# Altium footprint library SparkFun-Sensors.PCBLIB: 67 footprints (part 1 of 5)
Each footprint in its own frame and in the unit in brackets; x right, y up, seen from the top. Pads: shape width x height; smd on the part's side, far side on the other; paste and mask are expansions set on the pad; w line width, h text height; cw(c..) or ccw(c..) is an arc to the next point about the centre after c.
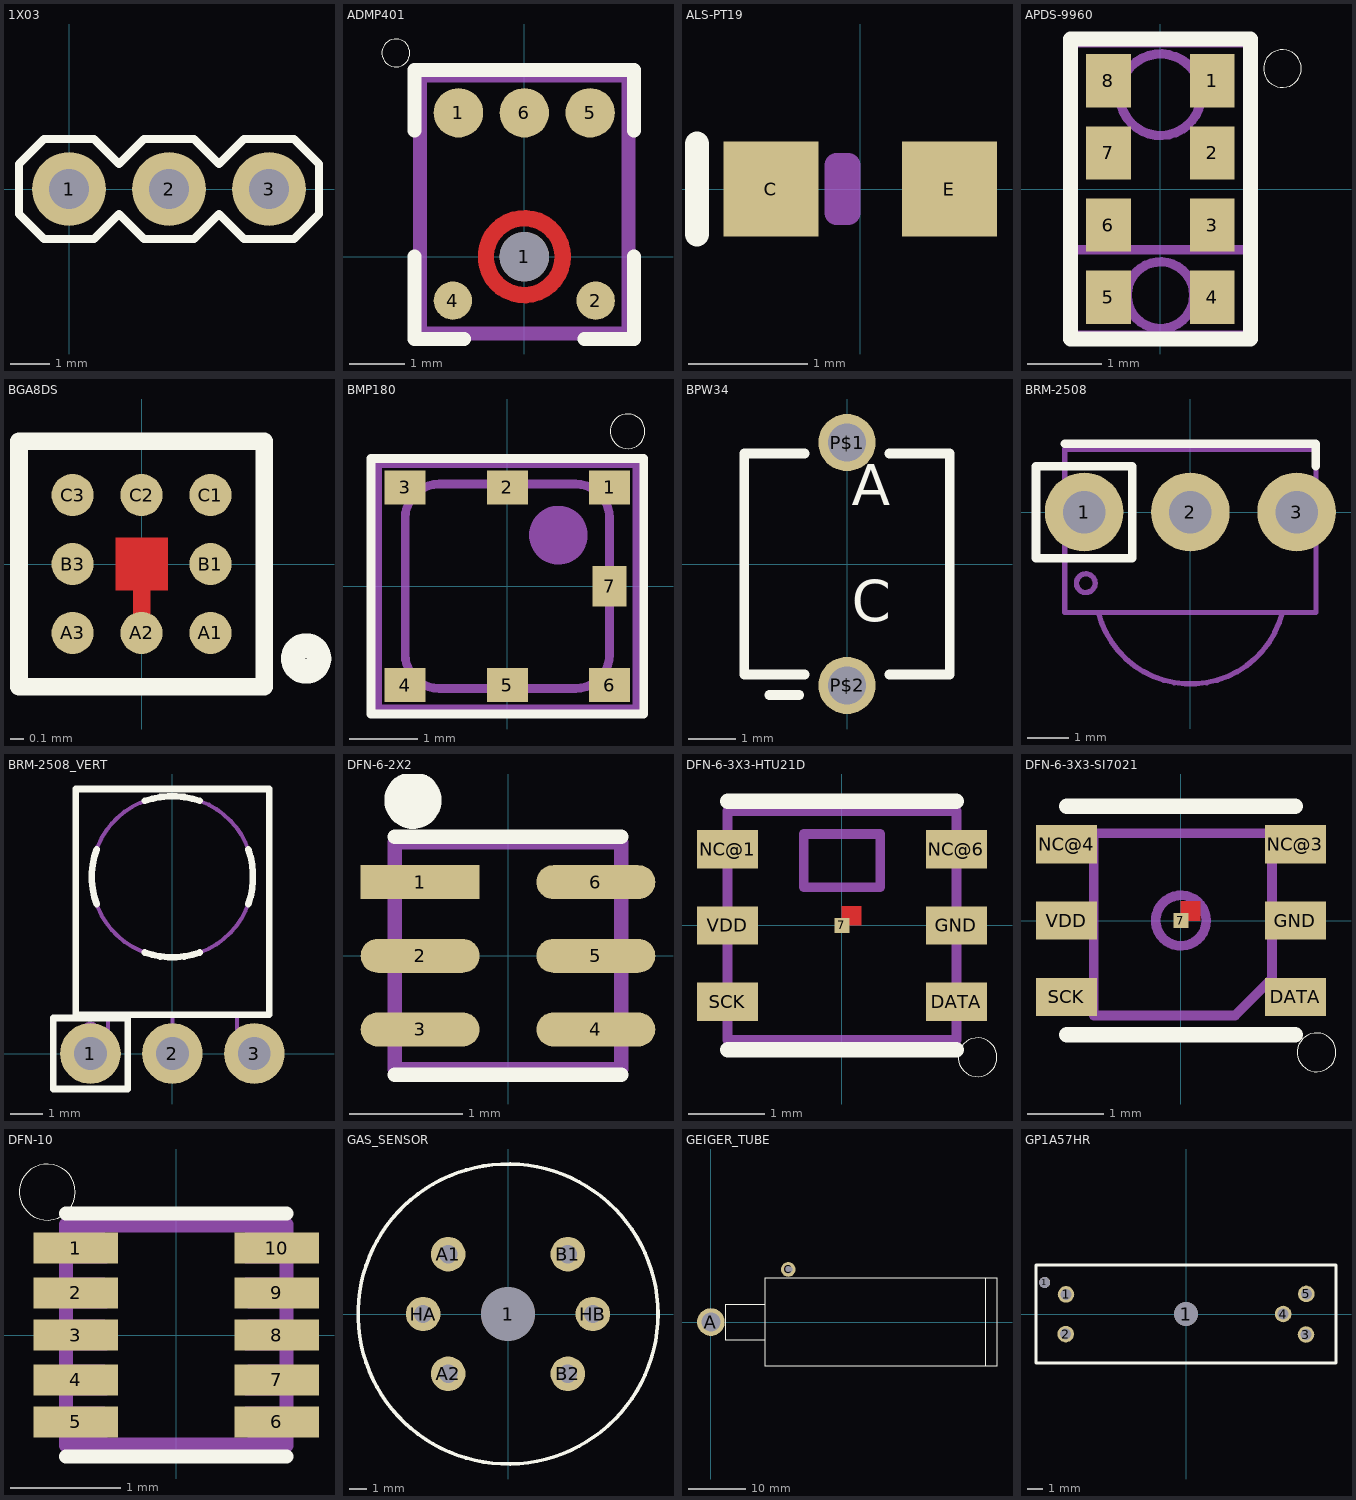
[diagram p0: the footprints below, top view; thin cyan lines are the x and y axes]

## 1X03 [mil]
pads (3):
  round 74 hole 40: 1(0,0) 2(100,0) 3(200,0)
Top Overlay:
  lines w8: -50,-25 -50,25 -25,50 25,50 50,25 75,50 125,50 150,25 175,50 225,50 250,25 250,-25 225,-50 175,-50 150,-25 125,-50 75,-50 50,-25 25,-50 -25,-50 -50,-25
Mechanical 16:
  rectangle: 190,-10 210,10
  rectangle: 90,-10 110,10
  rectangle: -10,-10 10,10

## ADMP401 [mm]
pads (6):
  rrect100% 0.9x0.9 smd: 1(-1.2,2.62) 5(1.2,2.62) 6(0,2.62)
  round 0.9 hole 0.9: 1(0,0)
  rrect100% 0.7x0.7 smd: 2(1.3,-0.8) 4(-1.3,-0.8)
Top Layer:
  circle w0.3: c0,0 r0.7
Top Overlay:
  circle w0: c-2.34,3.71 r0.254
  lines w0.254: -2,0 -2,-1.5 -1.1,-1.5 ; -2,2.3 -2,3.4 2,3.4 2,2.3 ; 1.1,-1.5 2,-1.5 2,0
Top Paste:
  lines w0.3: -0.68,-0.185 ccw(c0.019,0.026) -0.185,-0.675 ; -0.675,0.185 cw(c0.026,-0.019) -0.185,0.68 ; 0.185,-0.68 ccw(c-0.026,0.019) 0.675,-0.185 ; 0.185,0.675 cw(c-0.019,-0.026) 0.68,0.185
Top Solder:
  circle w0.5: c0,0 r0.7
Mechanical 16:
  lines w0.254: -1.9,-1.4 -1.9,3.3 1.9,3.3 1.9,-1.4 -1.9,-1.4

## ALS-PT19 [mil]
pads (2):
  rect 31.5x31.5 smd: C(-29.53,0) E(29.53,0)
Top Overlay:
  lines w8: -54,-15 -54,15
Mechanical 16:
  lines w8: -7.87,-7.87 -7.87,7.87 -3.94,7.87 -3.94,-7.87 -7.87,-7.87

## APDS-9960 [mm]
pads (8):
  rect 0.6x0.72 smd: 1(0.7,1.455) 2(0.7,0.485) 3(0.7,-0.485) 4(0.7,-1.455) 5(-0.7,-1.455) 6(-0.7,-0.485) 7(-0.7,0.485) 8(-0.7,1.455)
Top Overlay:
  circle w0: c1.644,1.622 r0.254
  lines w0.203: -1.21,-2.02 1.21,-2.02 1.21,2.02 -1.21,2.02 -1.21,-2.02
Mechanical 16:
  circle w0.127: c0,1.27 r0.55
  circle w0.127: c0,-1.43 r0.45
  lines w0.127: -1.18,-0.82 -1.18,1.97 1.18,1.97 1.18,-0.82 ; -1.18,-0.82 -1.18,-1.97 1.18,-1.97 1.18,-0.82 ; -1.18,-0.82 1.18,-0.82

## BGA8DS [mil]
pads (8):
  rrect100% 12x12 smd: A1(19.7,-19.7) A2(0,-19.7) A3(-19.7,-19.7) B1(19.7,0) B3(-19.7,0) C1(19.7,19.7) C2(0,19.7) C3(-19.7,19.7)
Top Layer:
  rectangle: -7.5,-7.5 7.5,7.5
  lines w5: 0,-19.7 0,0
Top Overlay:
  circle w7: c47,-27 r3.7
  lines w5: -35,-35 35,-35 35,35 -35,35 -35,-35

## BMP180 [mm]
pads (7):
  rect 0.6x0.5 smd: 1(1.5,1.45) 2(0,1.45) 3(-1.5,1.45) 4(-1.5,-1.45) 5(0,-1.45) 6(1.5,-1.45)
  rect 0.5x0.6 smd: 7(1.5,0)
Top Overlay:
  circle w0: c1.766,2.274 r0.254
  lines w0.127: -2,-1.875 -2,1.875 2,1.875 2,-1.875 -2,-1.875
Mechanical 16:
  circle w0.61: c0.75,0.75 r0.125
  lines w0.127: -1.9,-1.8 -1.9,1.8 1.9,1.8 1.9,-1.8 -1.9,-1.8 ; -1.5,-1 -1.5,1 cw(c-1,1) -1,1.5 1,1.5 cw(c1,1) 1.5,1 1.5,-1 cw(c1,-1) 1,-1.5 -1,-1.5 cw(c-1,-1) -1.5,-1

## BPW34 [mil]
pads (2):
  round 47.25 hole 31.5: P$1(0,100.39) P$2(0,-100.39)
Top Overlay:
  lines w8: -64.21,-108.27 -39.53,-108.27 ; -34.96,-91.34 -85.04,-91.34 -85.04,91.34 -34.96,91.34 ; 34.96,-91.34 85.04,-91.34 85.04,91.34 34.96,91.34
  text "A" at 4,48.37 h34
  text "C" at 4,-47.37 h34

## BRM-2508 [mil]
pads (3):
  round 74 hole 40: 1(-100,0) 2(0,0) 3(100,0)
Top Overlay:
  lines w8: -118.11,64.06 118.11,64.06 118.11,43.31 ; -145.28,-43.31 -54.72,-43.31 -54.72,43.31 -145.28,43.31 -145.28,-43.31
Mechanical 16:
  circle w5: c-98.43,-66.93 r8.8
  rectangle: 90,-10 110,10
  rectangle: -10,-10 10,10
  rectangle: -110,-10 -90,10
  lines w5: -86.61,-94.49 -118.11,-94.49 -118.11,59.06 118.11,59.06 118.11,-94.49 86.61,-94.49 ; -86.61,-94.49 86.61,-94.49 ; -86.61,-94.49 ccw(c0,-72.41) 86.61,-94.49

## BRM-2508_VERT [mil]
pads (3):
  round 74 hole 40: 1(-100,0) 2(0,0) 3(100,0)
Top Overlay:
  lines w8: -118.11,47.24 118.11,47.24 ; -118.11,48.43 -118.11,322.05 ; -118.11,322.83 118.11,322.83 ; -92.49,182.08 cw(c0,215.75) -92.49,249.41 ; -33.66,123.26 ccw(c0,215.74) 33.66,123.26 ; -33.66,308.24 cw(c0,215.76) 33.66,308.24 ; 92.49,182.08 ccw(c0,215.75) 92.49,249.41 ; 118.11,48.43 118.11,322.05 ; -145.28,-43.31 -54.72,-43.31 -54.72,43.31 -145.28,43.31 -145.28,-43.31
Mechanical 16:
  circle w5: c-100,27.56 r8.8
  circle w5: c0,215.75 r98.43
  rectangle: 90,-10 110,10
  rectangle: -10,-10 10,10
  rectangle: -110,-10 -90,10
  lines w5: -98.43,0 -78.74,0 -78.74,47.24 ; 0,0 0,47.24 ; 78.74,47.24 78.74,0 98.43,0 ; -118.11,48.43 118.11,48.43 118.11,322.05 -118.11,322.05 -118.11,48.43

## DFN-6-2X2 [mm]
pads (6):
  rect 1.05x0.3 smd: 1(-0.775,0.65)
  rrect100% 1.05x0.3 smd: 2(-0.775,0) 3(-0.775,-0.65) 4(0.775,-0.65) 5(0.775,0) 6(0.775,0.65)
Top Overlay:
  circle w0.305: c-0.838,1.372 r0.1
  lines w0.127: -1,-1.051 1,-1.051 ; -1,1.051 1,1.051
Mechanical 16:
  lines w0.127: -1,-1 -1,1 1,1 1,-1 -1,-1

## DFN-6-3X3-HTU21D [mil]
pads (7):
  rect 7.87x7.87 smd: 7(0,0)
  rect 31.5x19.69 smd: DATA(59.06,-39.37) GND(59.06,0) NC@1(-59.06,39.37) NC@6(59.06,39.37) SCK(-59.06,-39.37) VDD(-59.06,0)
Top Layer:
  region: 0,0 10,0 10,10 0,10
Top Overlay:
  circle w0: c70,-68 r10
  lines w8: -59.06,-64.06 59.06,-64.06 ; -59.06,64.06 59.06,64.06
Top Paste:
  region: 0,0 10,0 10,10 0,10
Top Solder:
  region: 0,0 10,0 10,10 0,10
Mechanical 16:
  lines w5: -59.06,-59.06 59.06,-59.06 59.06,59.06 -59.06,59.06 -59.06,-59.06 ; -19.69,19.69 19.69,19.69 19.69,47.24 -19.69,47.24 -19.69,19.69

## DFN-6-3X3-SI7021 [mil]
pads (7):
  rect 7.87x7.87 smd: 7(0,0)
  rect 31.5x19.69 smd: DATA(59.06,-39.37) GND(59.06,0) NC@3(59.06,39.37) NC@4(-59.06,39.37) SCK(-59.06,-39.37) VDD(-59.06,0)
Top Layer:
  region: 0,0 10,0 10,10 0,10
Top Overlay:
  circle w0: c70,-68 r10
  lines w8: -59,-59 59,-59 ; -59,59 59,59
Top Paste:
  region: 0,0 10,0 10,10 0,10
Top Solder:
  region: 0,0 10,0 10,10 0,10
Mechanical 16:
  circle w5: c0,0 r13.04
  lines w5: -45,-49 28,-49 47,-30 47,45 -45,45 -45,-48

## DFN-10 [mil]
pads (10):
  rect 30x11 smd: 1(-35.83,31) 2(-35.83,15) 3(-35.83,0) 4(-35.83,-16) 5(-35.83,-31) 6(35.83,-31) 7(35.83,-16) 8(35.83,0) 9(35.83,15) 10(35.83,31)
Top Overlay:
  circle w0: c-46,51 r10
  lines w5: -39.37,-43.31 39.37,-43.31 ; -39.37,43.31 39.37,43.31
Mechanical 16:
  lines w5: -39.37,-39.37 -39.37,39.37 39.37,39.37 39.37,-39.37 -39.37,-39.37
Mech84:
  rectangle: -39.5,-37.5 39.5,-36.5
  rectangle: -39.5,-38.5 39.5,-37.5
  rectangle: -39.5,-36.5 -24.5,-35.5
  rectangle: 25.5,-36.5 39.5,-35.5
  rectangle: -39.5,-35.5 -23.5,-34.5
  rectangle: 24.5,-35.5 39.5,-34.5
  rectangle: -39.5,-34.5 -22.5,-33.5
  rectangle: 23.5,-34.5 39.5,-33.5
  rectangle: -39.5,-33.5 -22.5,-32.5
  rectangle: 23.5,-33.5 39.5,-32.5
  rectangle: -39.5,-32.5 -22.5,-31.5
  rectangle: 22.5,-32.5 39.5,-31.5
  rectangle: -39.5,-31.5 -22.5,-30.5
  rectangle: 22.5,-31.5 39.5,-30.5
  rectangle: -39.5,-30.5 -22.5,-29.5
  rectangle: 22.5,-30.5 39.5,-29.5
  rectangle: -39.5,-29.5 -23.5,-28.5
  rectangle: 22.5,-29.5 39.5,-28.5
  rectangle: -39.5,-28.5 -23.5,-27.5
  rectangle: 22.5,-28.5 39.5,-27.5
  rectangle: -39.5,-27.5 -24.5,-26.5
  rectangle: 23.5,-27.5 39.5,-26.5
  rectangle: -39.5,-26.5 -25.5,-25.5
  rectangle: 24.5,-26.5 39.5,-25.5
  rectangle: -39.5,-21.5 -24.5,-20.5
  rectangle: 24.5,-21.5 39.5,-20.5
  rectangle: -39.5,-20.5 -23.5,-19.5
  rectangle: 23.5,-20.5 39.5,-19.5
  rectangle: -39.5,-19.5 -22.5,-18.5
  rectangle: 23.5,-19.5 39.5,-18.5
  rectangle: -39.5,-18.5 -22.5,-17.5
  rectangle: 22.5,-18.5 39.5,-17.5
  rectangle: -39.5,-17.5 -22.5,-16.5
  rectangle: 22.5,-17.5 39.5,-16.5
  rectangle: -39.5,-16.5 -22.5,-15.5
  rectangle: 22.5,-16.5 39.5,-15.5
  rectangle: -39.5,-15.5 -22.5,-14.5
  rectangle: 22.5,-15.5 39.5,-14.5
  rectangle: -39.5,-14.5 -23.5,-13.5
  rectangle: 22.5,-14.5 39.5,-13.5
  rectangle: -39.5,-13.5 -23.5,-12.5
  rectangle: 23.5,-13.5 39.5,-12.5
  rectangle: -39.5,-12.5 -24.5,-11.5
  rectangle: 24.5,-12.5 39.5,-11.5
  rectangle: -39.5,-11.5 -25.5,-10.5
  rectangle: -39.5,-5.5 -24.5,-4.5
  rectangle: 24.5,-5.5 39.5,-4.5
  rectangle: -39.5,-4.5 -23.5,-3.5
  rectangle: 23.5,-4.5 39.5,-3.5
  rectangle: -39.5,-3.5 -22.5,-2.5
  rectangle: 23.5,-3.5 39.5,-2.5
  rectangle: -39.5,-2.5 -22.5,-1.5
  rectangle: 22.5,-2.5 39.5,-1.5
  rectangle: -39.5,-1.5 -22.5,-0.5
  rectangle: 22.5,-1.5 39.5,-0.5
  rectangle: -39.5,-0.5 -22.5,0.5
  rectangle: 22.5,-0.5 39.5,0.5
  rectangle: -39.5,0.5 -22.5,1.5
  rectangle: 22.5,0.5 39.5,1.5
  rectangle: -39.5,1.5 -23.5,2.5
  rectangle: 22.5,1.5 39.5,2.5
  rectangle: -39.5,2.5 -23.5,3.5
  rectangle: 23.5,2.5 39.5,3.5
  rectangle: -39.5,3.5 -24.5,4.5
  rectangle: 24.5,3.5 39.5,4.5
  rectangle: -39.5,4.5 -25.5,5.5
  rectangle: -39.5,9.5 -24.5,10.5
  rectangle: 25.5,9.5 39.5,10.5
  rectangle: -39.5,10.5 -23.5,11.5
  rectangle: 24.5,10.5 39.5,11.5
  rectangle: -39.5,11.5 -22.5,12.5
  rectangle: 23.5,11.5 39.5,12.5
  rectangle: -39.5,12.5 -22.5,13.5
  rectangle: 23.5,12.5 39.5,13.5
  rectangle: -39.5,13.5 -22.5,14.5
  rectangle: 22.5,13.5 39.5,14.5
  rectangle: -39.5,14.5 -22.5,15.5
  rectangle: 22.5,14.5 39.5,15.5
  rectangle: -39.5,15.5 -22.5,16.5
  rectangle: 22.5,15.5 39.5,16.5
  rectangle: -39.5,16.5 -23.5,17.5
  rectangle: 22.5,16.5 39.5,17.5
  rectangle: -39.5,17.5 -24.5,18.5
  rectangle: 22.5,17.5 39.5,18.5
  rectangle: -39.5,18.5 -25.5,19.5
  rectangle: 23.5,18.5 39.5,19.5
  rectangle: 24.5,19.5 39.5,20.5
  rectangle: -39.5,25.5 -24.5,26.5
  rectangle: 24.5,25.5 39.5,26.5
  rectangle: -39.5,26.5 -23.5,27.5
  rectangle: 23.5,26.5 39.5,27.5
  rectangle: -39.5,27.5 -22.5,28.5
  rectangle: 23.5,27.5 39.5,28.5
  rectangle: -39.5,28.5 -22.5,29.5
  rectangle: 22.5,28.5 39.5,29.5
  rectangle: -39.5,29.5 -22.5,30.5
  rectangle: 22.5,29.5 39.5,30.5
  rectangle: -39.5,30.5 -22.5,31.5
  rectangle: 22.5,30.5 39.5,31.5
  rectangle: -39.5,31.5 -22.5,32.5
  rectangle: 22.5,31.5 39.5,32.5
  rectangle: -39.5,32.5 -23.5,33.5
  rectangle: 22.5,32.5 39.5,33.5
  rectangle: -39.5,33.5 -24.5,34.5
  rectangle: 23.5,33.5 39.5,34.5
  rectangle: -39.5,34.5 -25.5,35.5
  rectangle: 24.5,34.5 39.5,35.5
  rectangle: -39.5,37.5 39.5,38.5
  rectangle: -39.5,36.5 39.5,37.5
  rectangle: 25.5,4.5 39.5,5.5
  rectangle: 25.5,-11.5 39.5,-10.5
  rectangle: -39.5,19.5 -25.5,20.5
  rectangle: -39.5,35.5 -25.5,36.5
  rectangle: 24.5,35.5 39.5,36.5

## GAS_SENSOR [mil]
pads (7):
  round 118.11 hole 118.11: 1(0,0)
  round 76 hole 40: A1(-131.89,131.89) A2(-131.89,-131.89) B1(131.89,131.89) B2(131.89,-131.89) HA(-187.01,0) HB(187.01,0)
Top Overlay:
  circle w8: c0,0 r330.71

## GEIGER_TUBE [mil]
pads (2):
  round 190 hole 130: A(0,0)
  round 100 hole 55.12: C(530,360)
Top Overlay:
  lines w8: 370,-120 370,120 ; 370,-120 370,-300 1880,-300 ; 370,-120 100,-120 100,120 370,120 ; 370,120 370,300 1880,300 ; 1880,-300 1960,-300 1960,300 1880,300 ; 1880,-300 1880,300

## GP1A57HR [mm]
pads (7):
  round 0.7 hole 0.7: 1(-8.95,2)
  round 1.05 hole 0.7: 1(-7.6,1.24) 2(-7.62,-1.27) 3(7.6,-1.3) 4(6.15,0) 5(7.62,1.27)
  round 1.5 hole 1.5: 1(0,0)
Top Overlay:
  lines w0.203: -9.5,-3.1 9.5,-3.1 9.5,3.1 -9.5,3.1 -9.5,-3.1